# Altium footprint library Devindia_v4.0.PcbLib: 116 footprints (part 5 of 8)
Each footprint in its own frame and in the unit in brackets; x right, y up, seen from the top. Pads: shape width x height; smd on the part's side, far side on the other; paste and mask are expansions set on the pad; w line width, h text height; cw(c..) or ccw(c..) is an arc to the next point about the centre after c.
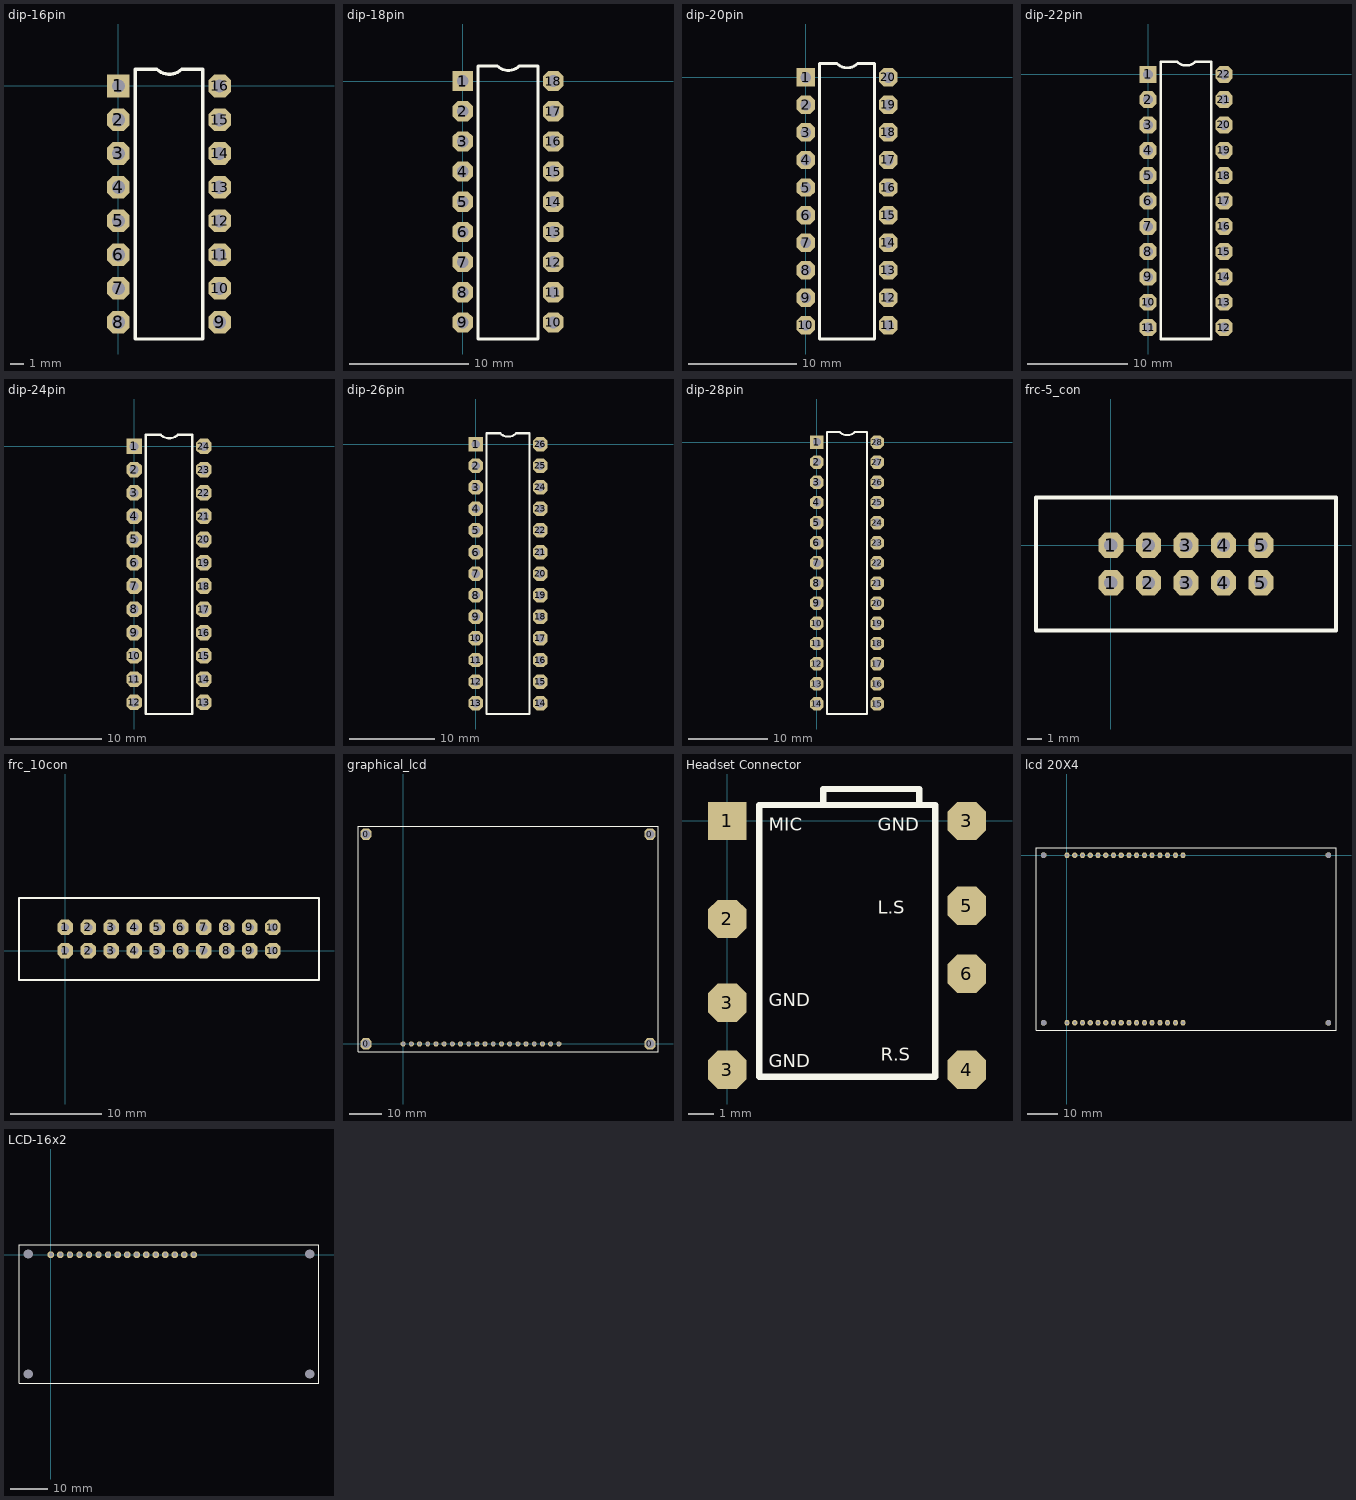
[diagram p4: the footprints below, top view; thin cyan lines are the x and y axes]

## dip-16pin [mm]
pads (16):
  rect 1.7x1.7 hole 1: 1(0,0)
  oct 1.7x1.7 hole 1: 2(0,-2.54) 3(0,-5.08) 4(0,-7.62) 5(0,-10.16) 6(0,-12.7) 7(0,-15.24) 8(0,-17.78) 9(7.62,-17.78) 10(7.62,-15.24) 11(7.62,-12.7) 12(7.62,-10.16) 13(7.62,-7.62) 14(7.62,-5.08) 15(7.62,-2.54) 16(7.62,0)
Top Overlay:
  lines w0.254: 1.27,-19.05 6.35,-19.05 6.35,1.27 4.775,1.27 cw(c3.835,2.21) 2.896,1.27 1.27,1.27 1.27,-19.05
3D body: height 1.63, standoff 1.37, extent 7.621,-2.921 7.873,-2.159
3D body: height 1.5, standoff 0, extent 7.62,-2.921 7.874,-2.159
3D body: height 1.63, standoff 1.37, extent 7.621,-0.381 7.873,0.381
3D body: height 1.5, standoff 0, extent 7.62,-0.381 7.874,0.381
3D body: height 1.63, standoff 1.37, extent 5.842,-0.381 7.747,0.381
3D body: height 1.63, standoff 1.37, extent 5.842,-2.921 7.747,-2.159
3D body: height 1.63, standoff 1.37, extent 5.842,-8.001 7.747,-7.239
3D body: height 1.5, standoff 0, extent 7.62,-8.001 7.874,-7.239
3D body: height 1.63, standoff 1.37, extent 7.621,-8.001 7.873,-7.239
3D body: height 1.63, standoff 1.37, extent -0.127,-2.921 1.778,-2.159
3D body: height 1.63, standoff 1.37, extent -0.127,-0.381 1.778,0.381
3D body: height 1.63, standoff 1.37, extent -0.127,-5.461 1.778,-4.699
3D body: height 1.63, standoff 1.37, extent -0.127,-8.001 1.778,-7.239
3D body: height 1.63, standoff 1.37, extent -0.127,-10.541 1.778,-9.779
3D body: height 1.63, standoff 1.37, extent -0.127,-13.081 1.778,-12.319
3D body: height 1.63, standoff 1.37, extent -0.127,-15.621 1.778,-14.859
3D body: height 1.63, standoff 1.37, extent -0.127,-18.161 1.778,-17.399
3D body: height 1.63, standoff 1.37, extent 5.842,-18.161 7.747,-17.399
3D body: height 1.63, standoff 1.37, extent 5.842,-15.621 7.747,-14.859
3D body: height 1.63, standoff 1.37, extent 5.842,-13.081 7.747,-12.319
3D body: height 1.63, standoff 1.37, extent 5.842,-10.541 7.747,-9.779
3D body: height 1.63, standoff 1.37, extent -0.126,-0.381 0.126,0.381
3D body: height 1.5, standoff 0, extent -0.127,-0.381 0.127,0.381
3D body: height 1.63, standoff 1.37, extent -0.126,-2.921 0.126,-2.159
3D body: height 1.5, standoff 0, extent -0.127,-2.921 0.127,-2.159
3D body: height 1.63, standoff 1.37, extent -0.126,-5.461 0.126,-4.699
3D body: height 1.5, standoff 0, extent -0.127,-5.461 0.127,-4.699
3D body: height 1.63, standoff 1.37, extent -0.126,-8.001 0.126,-7.239
3D body: height 1.5, standoff 0, extent -0.127,-8.001 0.127,-7.239
3D body: height 1.63, standoff 1.37, extent -0.126,-10.541 0.126,-9.779
3D body: height 1.5, standoff 0, extent -0.127,-10.541 0.127,-9.779
3D body: height 1.63, standoff 1.37, extent -0.126,-13.081 0.126,-12.319
3D body: height 1.5, standoff 0, extent -0.127,-13.081 0.127,-12.319
3D body: height 1.63, standoff 1.37, extent -0.126,-15.621 0.126,-14.859
3D body: height 1.5, standoff 0, extent -0.127,-15.621 0.127,-14.859
3D body: height 1.63, standoff 1.37, extent -0.126,-18.161 0.126,-17.399
3D body: height 1.5, standoff 0, extent -0.127,-18.161 0.127,-17.399
3D body: height 1.63, standoff 1.37, extent 7.494,-18.161 7.746,-17.399
3D body: height 1.5, standoff 0, extent 7.493,-18.161 7.747,-17.399
3D body: height 1.63, standoff 1.37, extent 7.494,-15.621 7.746,-14.859
3D body: height 1.5, standoff 0, extent 7.493,-15.621 7.747,-14.859
3D body: height 1.63, standoff 1.37, extent 7.494,-13.081 7.746,-12.319
3D body: height 1.5, standoff 0, extent 7.493,-13.081 7.747,-12.319
3D body: height 1.63, standoff 1.37, extent 7.494,-10.541 7.746,-9.779
3D body: height 1.5, standoff 0, extent 7.493,-10.541 7.747,-9.779
3D body: height 2, standoff 1.1, extent 1.27,-19.05 6.35,1.27
3D body: height 1.63, standoff 1.37, extent 7.494,-0.381 7.746,0.381
3D body: height 1.5, standoff 0, extent 7.493,-0.381 7.747,0.381
3D body: height 2.51, standoff 2.5, extent 2.041,-0.488 3.039,0.508
3D body: height 2.5, standoff 2, extent 1.778,-19.05 5.842,1.27
3D body: height 1.63, standoff 1.37, extent 5.842,-5.461 7.747,-4.699
3D body: height 1.5, standoff 0, extent 7.62,-5.461 7.874,-4.699
3D body: height 1.63, standoff 1.37, extent 7.621,-5.461 7.873,-4.699

## dip-18pin [mm]
pads (18):
  rect 1.7x1.7 hole 1: 1(0,0)
  oct 1.7x1.7 hole 1: 2(0,-2.54) 3(0,-5.08) 4(0,-7.62) 5(0,-10.16) 6(0,-12.7) 7(0,-15.24) 8(0,-17.78) 9(0,-20.32) 10(7.62,-20.32) 11(7.62,-17.78) 12(7.62,-15.24) 13(7.62,-12.7) 14(7.62,-10.16) 15(7.62,-7.62) 16(7.62,-5.08) 17(7.62,-2.54) 18(7.62,0)
Top Overlay:
  lines w0.254: 1.27,-21.717 6.35,-21.717 6.35,1.27 4.775,1.27 cw(c3.835,2.21) 2.896,1.27 1.27,1.27 1.27,-21.717
3D body: height 1.63, standoff 1.37, extent 7.621,-8.001 7.873,-7.239
3D body: height 1.5, standoff 0, extent 7.62,-8.001 7.874,-7.239
3D body: height 1.63, standoff 1.37, extent 7.621,-5.461 7.873,-4.699
3D body: height 1.5, standoff 0, extent 7.62,-5.461 7.874,-4.699
3D body: height 1.63, standoff 1.37, extent 5.842,-0.381 7.747,0.381
3D body: height 1.63, standoff 1.37, extent 5.842,-2.921 7.747,-2.159
3D body: height 1.63, standoff 1.37, extent 7.621,-0.381 7.873,0.381
3D body: height 1.5, standoff 0, extent 7.62,-0.381 7.874,0.381
3D body: height 1.63, standoff 1.37, extent 5.842,-5.461 7.747,-4.699
3D body: height 1.63, standoff 1.37, extent 7.621,-2.921 7.873,-2.159
3D body: height 1.5, standoff 0, extent 7.62,-2.921 7.874,-2.159
3D body: height 1.63, standoff 1.37, extent 5.842,-8.001 7.747,-7.239
3D body: height 1.63, standoff 1.37, extent 5.842,-13.081 7.747,-12.319
3D body: height 1.5, standoff 0, extent 7.62,-13.081 7.874,-12.319
3D body: height 1.63, standoff 1.37, extent 7.621,-13.081 7.873,-12.319
3D body: height 1.63, standoff 1.37, extent -0.127,-2.921 1.778,-2.159
3D body: height 1.63, standoff 1.37, extent -0.127,-0.381 1.778,0.381
3D body: height 1.63, standoff 1.37, extent -0.127,-5.461 1.778,-4.699
3D body: height 1.63, standoff 1.37, extent -0.127,-8.001 1.778,-7.239
3D body: height 1.63, standoff 1.37, extent -0.127,-10.541 1.778,-9.779
3D body: height 1.63, standoff 1.37, extent -0.127,-13.081 1.778,-12.319
3D body: height 1.63, standoff 1.37, extent -0.127,-15.621 1.778,-14.859
3D body: height 1.63, standoff 1.37, extent -0.127,-18.161 1.778,-17.399
3D body: height 1.63, standoff 1.37, extent 5.842,-20.701 7.747,-19.939
3D body: height 1.63, standoff 1.37, extent 5.842,-18.161 7.747,-17.399
3D body: height 1.63, standoff 1.37, extent 5.842,-15.621 7.747,-14.859
3D body: height 1.63, standoff 1.37, extent -0.126,-0.381 0.126,0.381
3D body: height 1.5, standoff 0, extent -0.127,-0.381 0.127,0.381
3D body: height 1.63, standoff 1.37, extent -0.126,-2.921 0.126,-2.159
3D body: height 1.5, standoff 0, extent -0.127,-2.921 0.127,-2.159
3D body: height 1.63, standoff 1.37, extent -0.126,-5.461 0.126,-4.699
3D body: height 1.5, standoff 0, extent -0.127,-5.461 0.127,-4.699
3D body: height 1.63, standoff 1.37, extent -0.126,-8.001 0.126,-7.239
3D body: height 1.5, standoff 0, extent -0.127,-8.001 0.127,-7.239
3D body: height 1.63, standoff 1.37, extent -0.126,-10.541 0.126,-9.779
3D body: height 1.5, standoff 0, extent -0.127,-10.541 0.127,-9.779
3D body: height 1.63, standoff 1.37, extent -0.126,-13.081 0.126,-12.319
3D body: height 1.5, standoff 0, extent -0.127,-13.081 0.127,-12.319
3D body: height 1.63, standoff 1.37, extent -0.126,-15.621 0.126,-14.859
3D body: height 1.5, standoff 0, extent -0.127,-15.621 0.127,-14.859
3D body: height 1.63, standoff 1.37, extent -0.126,-18.161 0.126,-17.399
3D body: height 1.5, standoff 0, extent -0.127,-18.161 0.127,-17.399
3D body: height 1.63, standoff 1.37, extent 7.494,-20.701 7.746,-19.939
3D body: height 1.5, standoff 0, extent 7.493,-20.701 7.747,-19.939
3D body: height 1.63, standoff 1.37, extent 7.494,-18.161 7.746,-17.399
3D body: height 1.5, standoff 0, extent 7.493,-18.161 7.747,-17.399
3D body: height 1.63, standoff 1.37, extent 7.494,-15.621 7.746,-14.859
3D body: height 1.5, standoff 0, extent 7.493,-15.621 7.747,-14.859
3D body: height 2, standoff 1.1, extent 1.27,-21.717 6.35,1.27
3D body: height 1.63, standoff 1.37, extent 7.494,-5.461 7.746,-4.699
3D body: height 1.5, standoff 0, extent 7.493,-5.461 7.747,-4.699
3D body: height 2.51, standoff 2.5, extent 2.041,-0.488 3.039,0.508
3D body: height 2.5, standoff 2, extent 1.778,-21.717 5.842,1.27
3D body: height 1.63, standoff 1.37, extent -0.127,-20.701 1.778,-19.939
3D body: height 1.63, standoff 1.37, extent -0.126,-20.701 0.126,-19.939
3D body: height 1.5, standoff 0, extent -0.127,-20.701 0.127,-19.939
3D body: height 1.63, standoff 1.37, extent 5.842,-10.541 7.747,-9.779
3D body: height 1.63, standoff 1.37, extent 7.494,-10.541 7.746,-9.779
3D body: height 1.5, standoff 0, extent 7.493,-10.541 7.747,-9.779

## dip-20pin [mm]
pads (20):
  rect 1.7x1.7 hole 1: 1(0,0)
  oct 1.7x1.7 hole 1: 2(0,-2.54) 3(0,-5.08) 4(0,-7.62) 5(0,-10.16) 6(0,-12.7) 7(0,-15.24) 8(0,-17.78) 9(0,-20.32) 10(0,-22.86) 11(7.62,-22.86) 12(7.62,-20.32) 13(7.62,-17.78) 14(7.62,-15.24) 15(7.62,-12.7) 16(7.62,-10.16) 17(7.62,-7.62) 18(7.62,-5.08) 19(7.62,-2.54) 20(7.62,0)
Top Overlay:
  lines w0.254: 1.27,-24.13 6.35,-24.13 6.35,1.27 4.775,1.27 cw(c3.835,2.21) 2.896,1.27 1.27,1.27 1.27,-24.13
3D body: height 1.5, standoff 0, extent -0.127,-18.161 0.127,-17.399
3D body: height 1.63, standoff 1.37, extent -0.126,-18.161 0.126,-17.399
3D body: height 1.63, standoff 1.37, extent -0.127,-18.161 1.778,-17.399
3D body: height 1.5, standoff 0, extent 7.493,-15.621 7.747,-14.859
3D body: height 1.63, standoff 1.37, extent 7.494,-15.621 7.746,-14.859
3D body: height 1.63, standoff 1.37, extent 5.842,-15.621 7.747,-14.859
3D body: height 1.5, standoff 0, extent -0.127,-20.701 0.127,-19.939
3D body: height 1.63, standoff 1.37, extent -0.126,-20.701 0.126,-19.939
3D body: height 1.63, standoff 1.37, extent -0.127,-20.701 1.778,-19.939
3D body: height 1.63, standoff 1.37, extent 7.621,-13.081 7.873,-12.319
3D body: height 1.5, standoff 0, extent 7.62,-13.081 7.874,-12.319
3D body: height 1.63, standoff 1.37, extent 7.621,-10.541 7.873,-9.779
3D body: height 1.5, standoff 0, extent 7.62,-10.541 7.874,-9.779
3D body: height 1.63, standoff 1.37, extent 7.621,-0.381 7.873,0.381
3D body: height 1.5, standoff 0, extent 7.62,-0.381 7.874,0.381
3D body: height 1.63, standoff 1.37, extent 5.842,-5.461 7.747,-4.699
3D body: height 1.63, standoff 1.37, extent 7.621,-2.921 7.873,-2.159
3D body: height 1.5, standoff 0, extent 7.62,-2.921 7.874,-2.159
3D body: height 1.63, standoff 1.37, extent 5.842,-8.001 7.747,-7.239
3D body: height 1.63, standoff 1.37, extent 7.621,-5.461 7.873,-4.699
3D body: height 1.5, standoff 0, extent 7.62,-5.461 7.874,-4.699
3D body: height 1.63, standoff 1.37, extent 5.842,-10.541 7.747,-9.779
3D body: height 1.63, standoff 1.37, extent 7.621,-8.001 7.873,-7.239
3D body: height 1.5, standoff 0, extent 7.62,-8.001 7.874,-7.239
3D body: height 1.63, standoff 1.37, extent 5.842,-13.081 7.747,-12.319
3D body: height 1.63, standoff 1.37, extent 5.842,-2.921 7.747,-2.159
3D body: height 1.63, standoff 1.37, extent 5.842,-0.381 7.747,0.381
3D body: height 1.63, standoff 1.37, extent 5.842,-18.161 7.747,-17.399
3D body: height 1.5, standoff 0, extent 7.62,-18.161 7.874,-17.399
3D body: height 1.63, standoff 1.37, extent 7.621,-18.161 7.873,-17.399
3D body: height 1.63, standoff 1.37, extent -0.127,-2.921 1.778,-2.159
3D body: height 1.63, standoff 1.37, extent -0.127,-0.381 1.778,0.381
3D body: height 1.63, standoff 1.37, extent -0.127,-5.461 1.778,-4.699
3D body: height 1.63, standoff 1.37, extent -0.127,-8.001 1.778,-7.239
3D body: height 1.63, standoff 1.37, extent -0.127,-10.541 1.778,-9.779
3D body: height 1.63, standoff 1.37, extent -0.127,-13.081 1.778,-12.319
3D body: height 1.63, standoff 1.37, extent -0.127,-15.621 1.778,-14.859
3D body: height 1.63, standoff 1.37, extent -0.127,-23.241 1.778,-22.479
3D body: height 1.63, standoff 1.37, extent 5.842,-23.241 7.747,-22.479
3D body: height 1.63, standoff 1.37, extent 5.842,-20.701 7.747,-19.939
3D body: height 1.63, standoff 1.37, extent -0.126,-0.381 0.126,0.381
3D body: height 1.5, standoff 0, extent -0.127,-0.381 0.127,0.381
3D body: height 1.63, standoff 1.37, extent -0.126,-2.921 0.126,-2.159
3D body: height 1.5, standoff 0, extent -0.127,-2.921 0.127,-2.159
3D body: height 1.63, standoff 1.37, extent -0.126,-5.461 0.126,-4.699
3D body: height 1.5, standoff 0, extent -0.127,-5.461 0.127,-4.699
3D body: height 1.63, standoff 1.37, extent -0.126,-8.001 0.126,-7.239
3D body: height 1.5, standoff 0, extent -0.127,-8.001 0.127,-7.239
3D body: height 1.63, standoff 1.37, extent -0.126,-10.541 0.126,-9.779
3D body: height 1.5, standoff 0, extent -0.127,-10.541 0.127,-9.779
3D body: height 1.63, standoff 1.37, extent -0.126,-13.081 0.126,-12.319
3D body: height 1.5, standoff 0, extent -0.127,-13.081 0.127,-12.319
3D body: height 1.63, standoff 1.37, extent -0.126,-15.621 0.126,-14.859
3D body: height 1.5, standoff 0, extent -0.127,-15.621 0.127,-14.859
3D body: height 1.63, standoff 1.37, extent -0.126,-23.241 0.126,-22.479
3D body: height 1.5, standoff 0, extent -0.127,-23.241 0.127,-22.479
3D body: height 1.63, standoff 1.37, extent 7.494,-23.241 7.746,-22.479
3D body: height 1.5, standoff 0, extent 7.493,-23.241 7.747,-22.479
3D body: height 1.63, standoff 1.37, extent 7.494,-20.701 7.746,-19.939
3D body: height 1.5, standoff 0, extent 7.493,-20.701 7.747,-19.939
3D body: height 2, standoff 1.1, extent 1.27,-24.13 6.35,1.27
3D body: height 1.63, standoff 1.37, extent 7.494,-10.541 7.746,-9.779
3D body: height 1.5, standoff 0, extent 7.493,-10.541 7.747,-9.779
3D body: height 2.51, standoff 2.5, extent 2.041,-0.488 3.039,0.508
3D body: height 2.5, standoff 2, extent 1.778,-24.13 5.842,1.27

## dip-22pin [mm]
pads (22):
  rect 1.7x1.7 hole 1: 1(0,0)
  oct 1.7x1.7 hole 1: 2(0,-2.54) 3(0,-5.08) 4(0,-7.62) 5(0,-10.16) 6(0,-12.7) 7(0,-15.24) 8(0,-17.78) 9(0,-20.32) 10(0,-22.86) 11(0,-25.4) 12(7.62,-25.4) 13(7.62,-22.86) 14(7.62,-20.32) 15(7.62,-17.78) 16(7.62,-15.24) 17(7.62,-12.7) 18(7.62,-10.16) 19(7.62,-7.62) 20(7.62,-5.08) 21(7.62,-2.54) 22(7.62,0)
Top Overlay:
  lines w0.254: 1.27,-26.543 1.27,1.27 2.896,1.27 ccw(c3.835,2.21) 4.775,1.27 6.35,1.27 6.35,-26.543 1.27,-26.543
3D body: height 2.5, standoff 2, extent 1.778,-26.543 5.842,1.27
3D body: height 2.51, standoff 2.5, extent 2.041,-0.488 3.039,0.508
3D body: height 1.5, standoff 0, extent 7.493,-15.621 7.747,-14.859
3D body: height 1.63, standoff 1.37, extent 7.494,-15.621 7.746,-14.859
3D body: height 2, standoff 1.1, extent 1.27,-26.543 6.35,1.27
3D body: height 1.5, standoff 0, extent 7.493,-25.781 7.747,-25.019
3D body: height 1.63, standoff 1.37, extent 7.494,-25.781 7.746,-25.019
3D body: height 1.5, standoff 0, extent -0.127,-25.781 0.127,-25.019
3D body: height 1.63, standoff 1.37, extent -0.126,-25.781 0.126,-25.019
3D body: height 1.5, standoff 0, extent -0.127,-23.241 0.127,-22.479
3D body: height 1.63, standoff 1.37, extent -0.126,-23.241 0.126,-22.479
3D body: height 1.5, standoff 0, extent -0.127,-18.161 0.127,-17.399
3D body: height 1.63, standoff 1.37, extent -0.126,-18.161 0.126,-17.399
3D body: height 1.5, standoff 0, extent -0.127,-15.621 0.127,-14.859
3D body: height 1.63, standoff 1.37, extent -0.126,-15.621 0.126,-14.859
3D body: height 1.5, standoff 0, extent -0.127,-13.081 0.127,-12.319
3D body: height 1.63, standoff 1.37, extent -0.126,-13.081 0.126,-12.319
3D body: height 1.5, standoff 0, extent -0.127,-10.541 0.127,-9.779
3D body: height 1.63, standoff 1.37, extent -0.126,-10.541 0.126,-9.779
3D body: height 1.5, standoff 0, extent -0.127,-8.001 0.127,-7.239
3D body: height 1.63, standoff 1.37, extent -0.126,-8.001 0.126,-7.239
3D body: height 1.5, standoff 0, extent -0.127,-5.461 0.127,-4.699
3D body: height 1.63, standoff 1.37, extent -0.126,-5.461 0.126,-4.699
3D body: height 1.5, standoff 0, extent -0.127,-2.921 0.127,-2.159
3D body: height 1.63, standoff 1.37, extent -0.126,-2.921 0.126,-2.159
3D body: height 1.5, standoff 0, extent -0.127,-0.381 0.127,0.381
3D body: height 1.63, standoff 1.37, extent -0.126,-0.381 0.126,0.381
3D body: height 1.63, standoff 1.37, extent 5.842,-25.781 7.747,-25.019
3D body: height 1.63, standoff 1.37, extent -0.127,-25.781 1.778,-25.019
3D body: height 1.63, standoff 1.37, extent -0.127,-23.241 1.778,-22.479
3D body: height 1.63, standoff 1.37, extent -0.127,-18.161 1.778,-17.399
3D body: height 1.63, standoff 1.37, extent -0.127,-15.621 1.778,-14.859
3D body: height 1.63, standoff 1.37, extent -0.127,-13.081 1.778,-12.319
3D body: height 1.63, standoff 1.37, extent -0.127,-10.541 1.778,-9.779
3D body: height 1.63, standoff 1.37, extent -0.127,-8.001 1.778,-7.239
3D body: height 1.63, standoff 1.37, extent -0.127,-5.461 1.778,-4.699
3D body: height 1.63, standoff 1.37, extent -0.127,-0.381 1.778,0.381
3D body: height 1.63, standoff 1.37, extent -0.127,-2.921 1.778,-2.159
3D body: height 1.63, standoff 1.37, extent 7.621,-23.241 7.873,-22.479
3D body: height 1.5, standoff 0, extent 7.62,-23.241 7.874,-22.479
3D body: height 1.63, standoff 1.37, extent 5.842,-23.241 7.747,-22.479
3D body: height 1.63, standoff 1.37, extent 5.842,-0.381 7.747,0.381
3D body: height 1.63, standoff 1.37, extent 5.842,-2.921 7.747,-2.159
3D body: height 1.63, standoff 1.37, extent 5.842,-5.461 7.747,-4.699
3D body: height 1.5, standoff 0, extent 7.62,-0.381 7.874,0.381
3D body: height 1.63, standoff 1.37, extent 7.621,-0.381 7.873,0.381
3D body: height 1.63, standoff 1.37, extent 5.842,-8.001 7.747,-7.239
3D body: height 1.5, standoff 0, extent 7.62,-2.921 7.874,-2.159
3D body: height 1.63, standoff 1.37, extent 7.621,-2.921 7.873,-2.159
3D body: height 1.63, standoff 1.37, extent 5.842,-18.161 7.747,-17.399
3D body: height 1.5, standoff 0, extent 7.62,-13.081 7.874,-12.319
3D body: height 1.63, standoff 1.37, extent 7.621,-13.081 7.873,-12.319
3D body: height 1.63, standoff 1.37, extent 5.842,-15.621 7.747,-14.859
3D body: height 1.5, standoff 0, extent 7.62,-10.541 7.874,-9.779
3D body: height 1.63, standoff 1.37, extent 7.621,-10.541 7.873,-9.779
3D body: height 1.63, standoff 1.37, extent 5.842,-13.081 7.747,-12.319
3D body: height 1.5, standoff 0, extent 7.62,-8.001 7.874,-7.239
3D body: height 1.63, standoff 1.37, extent 7.621,-8.001 7.873,-7.239
3D body: height 1.63, standoff 1.37, extent 5.842,-10.541 7.747,-9.779
3D body: height 1.5, standoff 0, extent 7.62,-5.461 7.874,-4.699
3D body: height 1.63, standoff 1.37, extent 7.621,-5.461 7.873,-4.699
3D body: height 1.5, standoff 0, extent 7.62,-15.621 7.874,-14.859
3D body: height 1.63, standoff 1.37, extent 7.621,-15.621 7.873,-14.859
3D body: height 1.5, standoff 0, extent 7.62,-18.161 7.874,-17.399
3D body: height 1.63, standoff 1.37, extent 7.621,-18.161 7.873,-17.399
3D body: height 1.63, standoff 1.37, extent -0.127,-20.701 1.778,-19.939
3D body: height 1.63, standoff 1.37, extent -0.126,-20.701 0.126,-19.939
3D body: height 1.5, standoff 0, extent -0.127,-20.701 0.127,-19.939
3D body: height 1.63, standoff 1.37, extent 5.842,-20.701 7.747,-19.939
3D body: height 1.63, standoff 1.37, extent 7.494,-20.701 7.746,-19.939
3D body: height 1.5, standoff 0, extent 7.493,-20.701 7.747,-19.939

## dip-24pin [mm]
pads (24):
  rect 1.7x1.7 hole 1: 1(0,0)
  oct 1.7x1.7 hole 1: 2(0,-2.54) 3(0,-5.08) 4(0,-7.62) 5(0,-10.16) 6(0,-12.7) 7(0,-15.24) 8(0,-17.78) 9(0,-20.32) 10(0,-22.86) 11(0,-25.4) 12(0,-27.94) 13(7.62,-27.94) 14(7.62,-25.4) 15(7.62,-22.86) 16(7.62,-20.32) 17(7.62,-17.78) 18(7.62,-15.24) 19(7.62,-12.7) 20(7.62,-10.16) 21(7.62,-7.62) 22(7.62,-5.08) 23(7.62,-2.54) 24(7.62,0)
Top Overlay:
  lines w0.254: 1.27,-29.21 6.35,-29.21 6.35,1.27 4.775,1.27 cw(c3.835,2.21) 2.896,1.27 1.27,1.27 1.27,-29.21
3D body: height 1.63, standoff 1.37, extent 7.621,-23.241 7.873,-22.479
3D body: height 1.5, standoff 0, extent 7.62,-23.241 7.874,-22.479
3D body: height 1.63, standoff 1.37, extent 7.621,-20.701 7.873,-19.939
3D body: height 1.5, standoff 0, extent 7.62,-20.701 7.874,-19.939
3D body: height 1.63, standoff 1.37, extent 5.842,-25.781 7.747,-25.019
3D body: height 1.63, standoff 1.37, extent 7.621,-10.541 7.873,-9.779
3D body: height 1.5, standoff 0, extent 7.62,-10.541 7.874,-9.779
3D body: height 1.63, standoff 1.37, extent 5.842,-15.621 7.747,-14.859
3D body: height 1.63, standoff 1.37, extent 7.621,-13.081 7.873,-12.319
3D body: height 1.5, standoff 0, extent 7.62,-13.081 7.874,-12.319
3D body: height 1.63, standoff 1.37, extent 5.842,-18.161 7.747,-17.399
3D body: height 1.63, standoff 1.37, extent 7.621,-15.621 7.873,-14.859
3D body: height 1.5, standoff 0, extent 7.62,-15.621 7.874,-14.859
3D body: height 1.63, standoff 1.37, extent 5.842,-20.701 7.747,-19.939
3D body: height 1.63, standoff 1.37, extent 7.621,-18.161 7.873,-17.399
3D body: height 1.5, standoff 0, extent 7.62,-18.161 7.874,-17.399
3D body: height 1.63, standoff 1.37, extent 5.842,-23.241 7.747,-22.479
3D body: height 1.63, standoff 1.37, extent 7.621,-8.001 7.873,-7.239
3D body: height 1.5, standoff 0, extent 7.62,-8.001 7.874,-7.239
3D body: height 1.63, standoff 1.37, extent 5.842,-13.081 7.747,-12.319
3D body: height 1.63, standoff 1.37, extent 7.621,-5.461 7.873,-4.699
3D body: height 1.5, standoff 0, extent 7.62,-5.461 7.874,-4.699
3D body: height 1.63, standoff 1.37, extent 5.842,-10.541 7.747,-9.779
3D body: height 1.63, standoff 1.37, extent 7.621,-2.921 7.873,-2.159
3D body: height 1.5, standoff 0, extent 7.62,-2.921 7.874,-2.159
3D body: height 1.63, standoff 1.37, extent 5.842,-8.001 7.747,-7.239
3D body: height 1.63, standoff 1.37, extent 7.621,-0.381 7.873,0.381
3D body: height 1.5, standoff 0, extent 7.62,-0.381 7.874,0.381
3D body: height 1.63, standoff 1.37, extent 5.842,-5.461 7.747,-4.699
3D body: height 1.63, standoff 1.37, extent 5.842,-2.921 7.747,-2.159
3D body: height 1.63, standoff 1.37, extent 5.842,-0.381 7.747,0.381
3D body: height 1.63, standoff 1.37, extent 5.842,-28.321 7.747,-27.559
3D body: height 1.5, standoff 0, extent 7.62,-28.321 7.874,-27.559
3D body: height 1.63, standoff 1.37, extent 7.621,-28.321 7.873,-27.559
3D body: height 1.63, standoff 1.37, extent -0.127,-2.921 1.778,-2.159
3D body: height 1.63, standoff 1.37, extent -0.127,-0.381 1.778,0.381
3D body: height 1.63, standoff 1.37, extent -0.127,-5.461 1.778,-4.699
3D body: height 1.63, standoff 1.37, extent -0.127,-8.001 1.778,-7.239
3D body: height 1.63, standoff 1.37, extent -0.127,-10.541 1.778,-9.779
3D body: height 1.63, standoff 1.37, extent -0.127,-13.081 1.778,-12.319
3D body: height 1.63, standoff 1.37, extent -0.127,-15.621 1.778,-14.859
3D body: height 1.63, standoff 1.37, extent -0.127,-18.161 1.778,-17.399
3D body: height 1.63, standoff 1.37, extent -0.127,-20.701 1.778,-19.939
3D body: height 1.63, standoff 1.37, extent -0.127,-23.241 1.778,-22.479
3D body: height 1.63, standoff 1.37, extent -0.127,-25.781 1.778,-25.019
3D body: height 1.63, standoff 1.37, extent -0.127,-28.321 1.778,-27.559
3D body: height 1.63, standoff 1.37, extent -0.126,-0.381 0.126,0.381
3D body: height 1.5, standoff 0, extent -0.127,-0.381 0.127,0.381
3D body: height 1.63, standoff 1.37, extent -0.126,-2.921 0.126,-2.159
3D body: height 1.5, standoff 0, extent -0.127,-2.921 0.127,-2.159
3D body: height 1.63, standoff 1.37, extent -0.126,-5.461 0.126,-4.699
3D body: height 1.5, standoff 0, extent -0.127,-5.461 0.127,-4.699
3D body: height 1.63, standoff 1.37, extent -0.126,-8.001 0.126,-7.239
3D body: height 1.5, standoff 0, extent -0.127,-8.001 0.127,-7.239
3D body: height 1.63, standoff 1.37, extent -0.126,-10.541 0.126,-9.779
3D body: height 1.5, standoff 0, extent -0.127,-10.541 0.127,-9.779
3D body: height 1.63, standoff 1.37, extent -0.126,-13.081 0.126,-12.319
3D body: height 1.5, standoff 0, extent -0.127,-13.081 0.127,-12.319
3D body: height 1.63, standoff 1.37, extent -0.126,-15.621 0.126,-14.859
3D body: height 1.5, standoff 0, extent -0.127,-15.621 0.127,-14.859
3D body: height 1.63, standoff 1.37, extent -0.126,-18.161 0.126,-17.399
3D body: height 1.5, standoff 0, extent -0.127,-18.161 0.127,-17.399
3D body: height 1.63, standoff 1.37, extent -0.126,-20.828 0.126,-20.066
3D body: height 1.5, standoff 0, extent -0.127,-20.828 0.127,-20.066
3D body: height 1.63, standoff 1.37, extent -0.126,-23.241 0.126,-22.479
3D body: height 1.5, standoff 0, extent -0.127,-23.241 0.127,-22.479
3D body: height 1.63, standoff 1.37, extent -0.126,-25.781 0.126,-25.019
3D body: height 1.5, standoff 0, extent -0.127,-25.781 0.127,-25.019
3D body: height 1.63, standoff 1.37, extent -0.126,-28.321 0.126,-27.559
3D body: height 1.5, standoff 0, extent -0.127,-28.321 0.127,-27.559
3D body: height 2, standoff 1.1, extent 1.27,-29.21 6.35,1.27
3D body: height 1.63, standoff 1.37, extent 7.494,-20.701 7.746,-19.939
3D body: height 1.5, standoff 0, extent 7.493,-20.701 7.747,-19.939
3D body: height 2.51, standoff 2.5, extent 2.041,-0.488 3.039,0.508
3D body: height 2.5, standoff 2, extent 1.778,-29.21 5.842,1.27

## dip-26pin [mm]
pads (26):
  rect 1.7x1.7 hole 1: 1(0,0)
  oct 1.7x1.7 hole 1: 2(0,-2.54) 3(0,-5.08) 4(0,-7.62) 5(0,-10.16) 6(0,-12.7) 7(0,-15.24) 8(0,-17.78) 9(0,-20.32) 10(0,-22.86) 11(0,-25.4) 12(0,-27.94) 13(0,-30.48) 14(7.62,-30.48) 15(7.62,-27.94) 16(7.62,-25.4) 17(7.62,-22.86) 18(7.62,-20.32) 19(7.62,-17.78) 20(7.62,-15.24) 21(7.62,-12.7) 22(7.62,-10.16) 23(7.62,-7.62) 24(7.62,-5.08) 25(7.62,-2.54) 26(7.62,0)
Top Overlay:
  lines w0.254: 1.27,-31.75 6.35,-31.75 6.35,1.27 4.775,1.27 cw(c3.835,2.21) 2.896,1.27 1.27,1.27 1.27,-31.75
3D body: height 1.63, standoff 1.37, extent 7.621,-28.321 7.873,-27.559
3D body: height 1.5, standoff 0, extent 7.62,-28.321 7.874,-27.559
3D body: height 1.63, standoff 1.37, extent 7.621,-25.781 7.873,-25.019
3D body: height 1.5, standoff 0, extent 7.62,-25.781 7.874,-25.019
3D body: height 1.63, standoff 1.37, extent 5.842,-30.861 7.747,-30.099
3D body: height 1.63, standoff 1.37, extent 7.621,-15.621 7.873,-14.859
3D body: height 1.5, standoff 0, extent 7.62,-15.621 7.874,-14.859
3D body: height 1.63, standoff 1.37, extent 5.842,-20.701 7.747,-19.939
3D body: height 1.63, standoff 1.37, extent 7.621,-18.161 7.873,-17.399
3D body: height 1.5, standoff 0, extent 7.62,-18.161 7.874,-17.399
3D body: height 1.63, standoff 1.37, extent 5.842,-23.241 7.747,-22.479
3D body: height 1.63, standoff 1.37, extent 7.621,-20.701 7.873,-19.939
3D body: height 1.5, standoff 0, extent 7.62,-20.701 7.874,-19.939
3D body: height 1.63, standoff 1.37, extent 5.842,-25.781 7.747,-25.019
3D body: height 1.63, standoff 1.37, extent 7.621,-23.241 7.873,-22.479
3D body: height 1.5, standoff 0, extent 7.62,-23.241 7.874,-22.479
3D body: height 1.63, standoff 1.37, extent 5.842,-28.321 7.747,-27.559
3D body: height 1.63, standoff 1.37, extent 7.621,-13.081 7.873,-12.319
3D body: height 1.5, standoff 0, extent 7.62,-13.081 7.874,-12.319
3D body: height 1.63, standoff 1.37, extent 5.842,-18.161 7.747,-17.399
3D body: height 1.63, standoff 1.37, extent 7.621,-10.541 7.873,-9.779
3D body: height 1.5, standoff 0, extent 7.62,-10.541 7.874,-9.779
3D body: height 1.63, standoff 1.37, extent 5.842,-15.621 7.747,-14.859
3D body: height 1.63, standoff 1.37, extent 7.621,-8.001 7.873,-7.239
3D body: height 1.5, standoff 0, extent 7.62,-8.001 7.874,-7.239
3D body: height 1.63, standoff 1.37, extent 5.842,-13.081 7.747,-12.319
3D body: height 1.63, standoff 1.37, extent 7.621,-5.461 7.873,-4.699
3D body: height 1.5, standoff 0, extent 7.62,-5.461 7.874,-4.699
3D body: height 1.63, standoff 1.37, extent 5.842,-10.541 7.747,-9.779
3D body: height 1.63, standoff 1.37, extent 7.621,-2.921 7.873,-2.159
3D body: height 1.5, standoff 0, extent 7.62,-2.921 7.874,-2.159
3D body: height 1.63, standoff 1.37, extent 5.842,-8.001 7.747,-7.239
3D body: height 1.63, standoff 1.37, extent 7.621,-0.381 7.873,0.381
3D body: height 1.5, standoff 0, extent 7.62,-0.381 7.874,0.381
3D body: height 1.63, standoff 1.37, extent 5.842,-5.461 7.747,-4.699
3D body: height 1.63, standoff 1.37, extent 5.842,-2.921 7.747,-2.159
3D body: height 1.63, standoff 1.37, extent 5.842,-0.381 7.747,0.381
3D body: height 1.63, standoff 1.37, extent -0.127,-30.861 1.778,-30.099
3D body: height 1.5, standoff 0, extent -0.254,-30.861 0,-30.099
3D body: height 1.63, standoff 1.37, extent -0.253,-30.861 -0.001,-30.099
3D body: height 1.63, standoff 1.37, extent -0.127,-2.921 1.778,-2.159
3D body: height 1.63, standoff 1.37, extent -0.127,-0.381 1.778,0.381
3D body: height 1.63, standoff 1.37, extent -0.127,-5.461 1.778,-4.699
3D body: height 1.63, standoff 1.37, extent -0.127,-8.001 1.778,-7.239
3D body: height 1.63, standoff 1.37, extent -0.127,-10.541 1.778,-9.779
3D body: height 1.63, standoff 1.37, extent -0.127,-13.081 1.778,-12.319
3D body: height 1.63, standoff 1.37, extent -0.127,-15.621 1.778,-14.859
3D body: height 1.63, standoff 1.37, extent -0.127,-18.161 1.778,-17.399
3D body: height 1.63, standoff 1.37, extent -0.127,-20.701 1.778,-19.939
3D body: height 1.63, standoff 1.37, extent -0.127,-23.241 1.778,-22.479
3D body: height 1.63, standoff 1.37, extent -0.127,-25.781 1.778,-25.019
3D body: height 1.63, standoff 1.37, extent -0.127,-28.321 1.778,-27.559
3D body: height 1.63, standoff 1.37, extent -0.126,-0.381 0.126,0.381
3D body: height 1.5, standoff 0, extent -0.127,-0.381 0.127,0.381
3D body: height 1.63, standoff 1.37, extent -0.126,-2.921 0.126,-2.159
3D body: height 1.5, standoff 0, extent -0.127,-2.921 0.127,-2.159
3D body: height 1.63, standoff 1.37, extent -0.126,-5.461 0.126,-4.699
3D body: height 1.5, standoff 0, extent -0.127,-5.461 0.127,-4.699
3D body: height 1.63, standoff 1.37, extent -0.126,-8.001 0.126,-7.239
3D body: height 1.5, standoff 0, extent -0.127,-8.001 0.127,-7.239
3D body: height 1.63, standoff 1.37, extent -0.126,-10.541 0.126,-9.779
3D body: height 1.5, standoff 0, extent -0.127,-10.541 0.127,-9.779
3D body: height 1.63, standoff 1.37, extent -0.126,-13.081 0.126,-12.319
3D body: height 1.5, standoff 0, extent -0.127,-13.081 0.127,-12.319
3D body: height 1.63, standoff 1.37, extent -0.126,-15.621 0.126,-14.859
3D body: height 1.5, standoff 0, extent -0.127,-15.621 0.127,-14.859
3D body: height 1.63, standoff 1.37, extent -0.126,-18.161 0.126,-17.399
3D body: height 1.5, standoff 0, extent -0.127,-18.161 0.127,-17.399
3D body: height 1.63, standoff 1.37, extent -0.126,-20.828 0.126,-20.066
3D body: height 1.5, standoff 0, extent -0.127,-20.828 0.127,-20.066
3D body: height 1.63, standoff 1.37, extent -0.126,-23.241 0.126,-22.479
3D body: height 1.5, standoff 0, extent -0.127,-23.241 0.127,-22.479
3D body: height 1.63, standoff 1.37, extent -0.126,-25.781 0.126,-25.019
3D body: height 1.5, standoff 0, extent -0.127,-25.781 0.127,-25.019
3D body: height 1.63, standoff 1.37, extent -0.126,-28.321 0.126,-27.559
3D body: height 1.5, standoff 0, extent -0.127,-28.321 0.127,-27.559
3D body: height 2, standoff 1.1, extent 1.27,-31.75 6.35,1.27
3D body: height 1.63, standoff 1.37, extent 7.494,-25.781 7.746,-25.019
3D body: height 1.5, standoff 0, extent 7.493,-25.781 7.747,-25.019
3D body: height 2.51, standoff 2.5, extent 2.041,-0.488 3.039,0.508
3D body: height 2.5, standoff 2, extent 1.778,-31.75 5.842,1.27

## dip-28pin [mm]
pads (28):
  rect 1.7x1.7 hole 1: 1(0,0)
  oct 1.7x1.7 hole 1: 2(0,-2.54) 3(0,-5.08) 4(0,-7.62) 5(0,-10.16) 6(0,-12.7) 7(0,-15.24) 8(0,-17.78) 9(0,-20.32) 10(0,-22.86) 11(0,-25.4) 12(0,-27.94) 13(0,-30.48) 14(0,-33) 15(7.62,-33.02) 16(7.62,-30.48) 17(7.62,-27.94) 18(7.62,-25.4) 19(7.62,-22.86) 20(7.62,-20.32) 21(7.62,-17.78) 22(7.62,-15.24) 23(7.62,-12.7) 24(7.62,-10.16) 25(7.62,-7.62) 26(7.62,-5.08) 27(7.62,-2.54) 28(7.62,0)
Top Overlay:
  lines w0.254: 1.27,-34.29 1.27,1.27 2.896,1.27 ccw(c3.835,2.21) 4.775,1.27 6.35,1.27 6.35,-34.29 1.27,-34.29
3D body: height 2.5, standoff 2, extent 1.778,-34.29 5.842,1.27
3D body: height 2.51, standoff 2.5, extent 2.041,-0.488 3.039,0.508
3D body: height 1.5, standoff 0, extent 7.493,-30.861 7.747,-30.099
3D body: height 1.63, standoff 1.37, extent 7.494,-30.861 7.746,-30.099
3D body: height 1.63, standoff 1.37, extent -0.126,-33.401 1.779,-32.639
3D body: height 1.5, standoff 0, extent -0.381,-33.401 -0.127,-32.639
3D body: height 1.63, standoff 1.37, extent -0.381,-33.401 -0.128,-32.639
3D body: height 2, standoff 1.1, extent 1.27,-34.29 6.35,1.27
3D body: height 1.5, standoff 0, extent -0.127,-28.321 0.127,-27.559
3D body: height 1.63, standoff 1.37, extent -0.126,-28.321 0.126,-27.559
3D body: height 1.5, standoff 0, extent -0.127,-25.781 0.127,-25.019
3D body: height 1.63, standoff 1.37, extent -0.126,-25.781 0.126,-25.019
3D body: height 1.5, standoff 0, extent -0.127,-23.241 0.127,-22.479
3D body: height 1.63, standoff 1.37, extent -0.126,-23.241 0.126,-22.479
3D body: height 1.5, standoff 0, extent -0.127,-20.828 0.127,-20.066
3D body: height 1.63, standoff 1.37, extent -0.126,-20.828 0.126,-20.066
3D body: height 1.5, standoff 0, extent -0.127,-18.161 0.127,-17.399
3D body: height 1.63, standoff 1.37, extent -0.126,-18.161 0.126,-17.399
3D body: height 1.5, standoff 0, extent -0.127,-15.621 0.127,-14.859
3D body: height 1.63, standoff 1.37, extent -0.126,-15.621 0.126,-14.859
3D body: height 1.5, standoff 0, extent -0.127,-13.081 0.127,-12.319
3D body: height 1.63, standoff 1.37, extent -0.126,-13.081 0.126,-12.319
3D body: height 1.5, standoff 0, extent -0.127,-10.541 0.127,-9.779
3D body: height 1.63, standoff 1.37, extent -0.126,-10.541 0.126,-9.779
3D body: height 1.5, standoff 0, extent -0.127,-8.001 0.127,-7.239
3D body: height 1.63, standoff 1.37, extent -0.126,-8.001 0.126,-7.239
3D body: height 1.5, standoff 0, extent -0.127,-5.461 0.127,-4.699
3D body: height 1.63, standoff 1.37, extent -0.126,-5.461 0.126,-4.699
3D body: height 1.5, standoff 0, extent -0.127,-2.921 0.127,-2.159
3D body: height 1.63, standoff 1.37, extent -0.126,-2.921 0.126,-2.159
3D body: height 1.5, standoff 0, extent -0.127,-0.381 0.127,0.381
3D body: height 1.63, standoff 1.37, extent -0.126,-0.381 0.126,0.381
3D body: height 1.63, standoff 1.37, extent -0.127,-28.321 1.778,-27.559
3D body: height 1.63, standoff 1.37, extent -0.127,-25.781 1.778,-25.019
3D body: height 1.63, standoff 1.37, extent -0.127,-23.241 1.778,-22.479
3D body: height 1.63, standoff 1.37, extent -0.127,-20.701 1.778,-19.939
3D body: height 1.63, standoff 1.37, extent -0.127,-18.161 1.778,-17.399
3D body: height 1.63, standoff 1.37, extent -0.127,-15.621 1.778,-14.859
3D body: height 1.63, standoff 1.37, extent -0.127,-13.081 1.778,-12.319
3D body: height 1.63, standoff 1.37, extent -0.127,-10.541 1.778,-9.779
3D body: height 1.63, standoff 1.37, extent -0.127,-8.001 1.778,-7.239
3D body: height 1.63, standoff 1.37, extent -0.127,-5.461 1.778,-4.699
3D body: height 1.63, standoff 1.37, extent -0.127,-0.381 1.778,0.381
3D body: height 1.63, standoff 1.37, extent -0.127,-2.921 1.778,-2.159
3D body: height 1.63, standoff 1.37, extent -0.253,-30.861 -0.001,-30.099
3D body: height 1.5, standoff 0, extent -0.254,-30.861 0,-30.099
3D body: height 1.63, standoff 1.37, extent -0.127,-30.861 1.778,-30.099
3D body: height 1.63, standoff 1.37, extent 5.842,-0.381 7.747,0.381
3D body: height 1.5, standoff 0, extent 7.62,-0.381 7.874,0.381
3D body: height 1.63, standoff 1.37, extent 7.621,-0.381 7.873,0.381
3D body: height 1.63, standoff 1.37, extent 5.842,-2.921 7.747,-2.159
3D body: height 1.5, standoff 0, extent 7.62,-2.921 7.874,-2.159
3D body: height 1.63, standoff 1.37, extent 7.621,-2.921 7.873,-2.159
3D body: height 1.63, standoff 1.37, extent 5.842,-5.461 7.747,-4.699
3D body: height 1.5, standoff 0, extent 7.62,-5.461 7.874,-4.699
3D body: height 1.63, standoff 1.37, extent 7.621,-5.461 7.873,-4.699
3D body: height 1.63, standoff 1.37, extent 5.842,-8.001 7.747,-7.239
3D body: height 1.5, standoff 0, extent 7.62,-8.001 7.874,-7.239
3D body: height 1.63, standoff 1.37, extent 7.621,-8.001 7.873,-7.239
3D body: height 1.63, standoff 1.37, extent 5.842,-10.541 7.747,-9.779
3D body: height 1.5, standoff 0, extent 7.62,-10.541 7.874,-9.779
3D body: height 1.63, standoff 1.37, extent 7.621,-10.541 7.873,-9.779
3D body: height 1.63, standoff 1.37, extent 5.842,-13.081 7.747,-12.319
3D body: height 1.5, standoff 0, extent 7.62,-13.081 7.874,-12.319
3D body: height 1.63, standoff 1.37, extent 7.621,-13.081 7.873,-12.319
3D body: height 1.63, standoff 1.37, extent 5.842,-15.621 7.747,-14.859
3D body: height 1.5, standoff 0, extent 7.62,-15.621 7.874,-14.859
3D body: height 1.63, standoff 1.37, extent 7.621,-15.621 7.873,-14.859
3D body: height 1.63, standoff 1.37, extent 5.842,-18.161 7.747,-17.399
3D body: height 1.5, standoff 0, extent 7.62,-18.161 7.874,-17.399
3D body: height 1.63, standoff 1.37, extent 7.621,-18.161 7.873,-17.399
3D body: height 1.63, standoff 1.37, extent 5.842,-28.321 7.747,-27.559
3D body: height 1.5, standoff 0, extent 7.62,-28.321 7.874,-27.559
3D body: height 1.63, standoff 1.37, extent 7.621,-28.321 7.873,-27.559
3D body: height 1.63, standoff 1.37, extent 5.842,-25.781 7.747,-25.019
3D body: height 1.5, standoff 0, extent 7.62,-25.781 7.874,-25.019
3D body: height 1.63, standoff 1.37, extent 7.621,-25.781 7.873,-25.019
3D body: height 1.63, standoff 1.37, extent 5.842,-23.241 7.747,-22.479
3D body: height 1.5, standoff 0, extent 7.62,-23.241 7.874,-22.479
3D body: height 1.63, standoff 1.37, extent 7.621,-23.241 7.873,-22.479
3D body: height 1.63, standoff 1.37, extent 5.842,-20.701 7.747,-19.939
3D body: height 1.5, standoff 0, extent 7.62,-20.701 7.874,-19.939
3D body: height 1.63, standoff 1.37, extent 7.621,-20.701 7.873,-19.939
3D body: height 1.63, standoff 1.37, extent 5.842,-30.861 7.747,-30.099
3D body: height 1.5, standoff 0, extent 7.62,-30.861 7.874,-30.099
3D body: height 1.63, standoff 1.37, extent 7.621,-30.861 7.873,-30.099
3D body: height 1.63, standoff 1.37, extent 5.842,-33.401 7.747,-32.639
3D body: height 1.5, standoff 0, extent 7.62,-33.401 7.874,-32.639
3D body: height 1.63, standoff 1.37, extent 7.621,-33.401 7.873,-32.639

## frc-5_con [mm]
pads (10):
  oct 1.7x1.7 hole 0.9: 1(0,-2.54) 1(0,0) 2(2.54,-2.54) 2(2.54,0) 3(5.08,-2.54) 3(5.08,0) 4(7.62,-2.54) 4(7.62,0) 5(10.16,-2.54) 5(10.16,0)
Top Overlay:
  lines w0.254: -5.07,-5.77 -5.07,3.23 15.24,3.23 15.24,-5.77 -5.07,-5.77
3D body: height 5.26, standoff 0, extent -1.27,-3.81 11.43,1.27

## frc_10con [mm]
pads (20):
  oct 1.7x1.7 hole 0.9: 1(0,0) 1(0,2.54) 2(2.54,0) 2(2.54,2.54) 3(5.08,0) 3(5.08,2.54) 4(7.62,0) 4(7.62,2.54) 5(10.16,0) 5(10.16,2.54) 6(12.7,0) 6(12.7,2.54) 7(15.24,0) 7(15.24,2.54) 8(17.78,0) 8(17.78,2.54) 9(20.32,0) 9(20.32,2.54) 10(22.86,0) 10(22.86,2.54)
Top Overlay:
  lines w0.254: -5.07,-3.23 -5.07,5.77 27.93,5.77 27.93,-3.23 -5.07,-3.23
3D body: height 5.26, standoff 0, extent -1.27,-1.27 24.13,3.81

## graphical_lcd [mil]
pads (24):
  oct 137.8x137.8 hole 106.3: 0(-452.76,0) 0(-452.76,2559.06) 0(3011.81,0) 0(3011.81,2559.06)
  oct 60x60 hole 39.37: 1(0,0) 2(100,0) 3(200,0) 4(300,0) 5(400,0) 6(500,0) 7(600,0) 8(700,0) 9(800,0) 10(900,0) 11(1000,0) 12(1100,0) 13(1200,0) 14(1300,0) 15(1400,0) 16(1500,0) 17(1600,0) 18(1700,0) 19(1800,0) 20(1900,0)
Top Overlay:
  lines w10: -551.18,-98.43 -551.18,2657.48 3110.24,2657.48 3110.24,-98.43 -551.18,-98.43
3D body: height 551.57, standoff 551.18, extent -90,440 2580,2200
3D body: height 551.18, standoff 196.85, extent -330,180 2850,2410
3D body: height 196.85, standoff 118.11, extent -550,-100 3110,2660
3D body: height 78.74, standoff 0, extent -20,-20 19.21,19.29
3D body: height 78.74, standoff 0, extent 80,-20 119.21,19.29
3D body: height 78.74, standoff 0, extent 180,-20 219.21,19.29
3D body: height 78.74, standoff 0, extent 280,-20 319.21,19.29
3D body: height 78.74, standoff 0, extent 380,-20 419.21,19.29
3D body: height 78.74, standoff 0, extent 480,-20 519.21,19.29
3D body: height 78.74, standoff 0, extent 580,-20 619.21,19.29
3D body: height 78.74, standoff 0, extent 680,-20 719.21,19.29
3D body: height 78.74, standoff 0, extent 780,-20 819.21,19.29
3D body: height 78.74, standoff 0, extent 880,-20 919.21,19.29
3D body: height 78.74, standoff 0, extent 980,-20 1019.21,19.29
3D body: height 78.74, standoff 0, extent 1180,-20 1219.21,19.29
3D body: height 78.74, standoff 0, extent 1080,-20 1119.21,19.29
3D body: height 78.74, standoff 0, extent 1280,-20 1319.21,19.29
3D body: height 78.74, standoff 0, extent 1680,-20 1719.21,19.29
3D body: height 78.74, standoff 0, extent 1580,-20 1619.21,19.29
3D body: height 78.74, standoff 0, extent 1480,-20 1519.21,19.29
3D body: height 78.74, standoff 0, extent 1380,-20 1419.21,19.29
3D body: height 78.74, standoff 0, extent 1780,-20 1819.21,19.29
3D body: height 78.74, standoff 0, extent 1880,-20 1919.21,19.29

## Headset Connector [mil]
pads (8):
  rect 60x60 all layers, no hole: 1(0,0)
  oct 60x60 all layers, no hole: 2(0,-153.15) 3(0,-388.98) 3(0,-284.25) 3(374.02,0) 4(374.02,-388.98) 5(374.02,-132.28) 6(374.02,-238.58)
Top Overlay:
  lines w10: 150,25 150,50 300,50 300,25 ; 50,-400 50,25 325,25 325,-400 50,-400
  text "MIC" at 65,-15 h20.63
  text "GND" at 235,-15 h20.63
  text "GND" at 65,-290 h20.63
  text "GND" at 65,-385 h20.63
  text "L.S" at 235,-145 h20.63
  text "R.S" at 240,-375 h20.63

## lcd 20X4 [mm]
pads (36):
  oct 1.8x1.8 hole 1.7: 0(-7.66,0.04) 0(-7.62,-54.96) 0(85.765,-54.96) 0(85.765,0.04)
  oct 1.7x1.7 hole 0.9: 1(0,-54.92) 1(0,0) 2(2.54,-54.92) 2(2.54,0) 3(5.08,-54.92) 3(5.08,0) 4(7.62,-54.92) 4(7.62,0) 5(10.16,-54.92) 5(10.16,0) 6(12.7,-54.92) 6(12.7,0) 7(15.24,-54.92) 7(15.24,0) 8(17.78,-54.92) 8(17.78,0) 9(20.32,-54.92) 9(20.32,0) 10(22.86,-54.92) 10(22.86,0) 11(25.4,-54.92) 11(25.4,0) 12(27.94,-54.92) 12(27.94,0) 13(30.48,-54.92) 13(30.48,0) 14(33.02,-54.92) 14(33.02,0) 15(35.56,-54.92) 15(35.56,0) 16(38.1,-54.92) 16(38.1,0)
Top Overlay:
  lines w0.254: -10.16,-57.46 88.265,-57.46 88.265,2.54 -10.16,2.54 -10.16,-57.46
3D body: height 10.8, standoff 0, extent -0.572,-0.536 0.425,0.462
3D body: height 10.8, standoff 0, extent 2.095,-0.409 3.092,0.589
3D body: height 10.8, standoff 0, extent 4.508,-0.536 5.505,0.462
3D body: height 10.8, standoff 0, extent 7.048,-0.409 8.045,0.589
3D body: height 10.8, standoff 0, extent 9.716,-0.409 10.712,0.589
3D body: height 10.8, standoff 0, extent 12.128,-0.536 13.125,0.462
3D body: height 10.8, standoff 0, extent 14.795,-0.409 15.792,0.589
3D body: height 10.8, standoff 0, extent 17.335,-0.409 18.332,0.589
3D body: height 10.8, standoff 0, extent 19.875,-0.536 20.872,0.462
3D body: height 10.8, standoff 0, extent 22.415,-0.409 23.412,0.589
3D body: height 10.8, standoff 0, extent 24.956,-0.409 25.952,0.589
3D body: height 10.8, standoff 0, extent 27.495,-0.409 28.492,0.589
3D body: height 10.8, standoff 0, extent 30.035,-0.536 31.032,0.462
3D body: height 10.8, standoff 0, extent 32.575,-0.409 33.572,0.589
3D body: height 10.8, standoff 0, extent 35.115,-0.409 36.112,0.589
3D body: height 10.8, standoff 0, extent 37.655,-0.409 38.652,0.589
3D body: height 10.8, standoff 0, extent -0.445,-55.4 0.552,-54.402
3D body: height 10.8, standoff 0, extent 2.095,-55.4 3.092,-54.402
3D body: height 10.8, standoff 0, extent 4.635,-55.4 5.632,-54.402
3D body: height 10.8, standoff 0, extent 7.175,-55.4 8.172,-54.402
3D body: height 10.8, standoff 0, extent 9.716,-55.4 10.712,-54.402
3D body: height 10.8, standoff 0, extent 12.128,-55.4 13.125,-54.402
3D body: height 10.8, standoff 0, extent 14.795,-55.4 15.792,-54.402
3D body: height 10.8, standoff 0, extent 17.335,-55.4 18.332,-54.402
3D body: height 10.8, standoff 0, extent 19.875,-55.4 20.872,-54.402
3D body: height 10.8, standoff 0, extent 22.415,-55.4 23.412,-54.402
3D body: height 10.8, standoff 0, extent 24.956,-55.4 25.952,-54.402
3D body: height 10.8, standoff 0, extent 27.495,-55.4 28.492,-54.402
3D body: height 10.8, standoff 0, extent 30.035,-55.4 31.032,-54.402
3D body: height 10.8, standoff 0, extent 32.575,-55.4 33.572,-54.402
3D body: height 10.8, standoff 0, extent 35.115,-55.4 36.112,-54.402
3D body: height 10.8, standoff 0, extent 37.655,-55.4 38.652,-54.402
3D body: height 12, standoff 10.5, extent -10.223,-57.686 88.963,2.512
3D body: height 20.5, standoff 12, extent -7.938,-46.637 86.169,-7.775
3D body: height 21, standoff 20.5, extent 2.857,-38.89 75.882,-16.03
3D body: height 12.5, standoff 12, extent -8.954,-56.416 -5.965,-53.422
3D body: height 12.5, standoff 12, extent 84.391,-56.162 87.38,-53.168
3D body: height 12.5, standoff 12, extent 84.138,-1.552 87.126,1.442
3D body: height 12.5, standoff 12, extent -8.7,-1.425 -5.711,1.569

## LCD-16x2 [mm]
pads (20):
  oct 1.7x1.7 hole 1: 1(0,0) 2(2.54,0) 3(5.08,0) 4(7.62,0) 5(10.16,0) 6(12.7,0) 7(15.24,0) 8(17.78,0) 9(20.32,0) 10(22.86,0) 11(25.4,0) 12(27.94,0) 13(30.48,0) 14(33.02,0) 15(35.56,0) 16(38.1,0)
  round 1.524 hole 2.5: no(-6,-31.85) no(-6,0.15) no(69,-31.85) no(69,0.15)
Top Overlay:
  lines w0.254: -8.509,-34.35 -8.509,2.032 -8.5,2.041 -8.5,2.65 71.5,2.65 71.5,-34.35 -8.5,-34.35 ; 71.5,1.652 71.501,1.651
3D body: height 11.5, standoff 11, extent -7.45,-1.4 -4.456,1.588
3D body: height 11.5, standoff 11, extent -7.425,-33.275 -4.431,-30.287
3D body: height 11.5, standoff 11, extent 67.425,-33.325 70.419,-30.337
3D body: height 11.5, standoff 11, extent 67.725,-1.2 70.719,1.788
3D body: height 14.4, standoff 11, extent 66.675,-25.4 71.12,-7.62
3D body: height 21.6, standoff 20.6, extent -1.27,-22.86 64.135,-8.89
3D body: height 20.6, standoff 10.6, extent -3.81,-27.94 66.675,-4.445
3D body: height 9.6, standoff 0, extent 37.592,-0.508 38.59,0.488
3D body: height 9.6, standoff 0, extent 35.052,-0.508 36.05,0.488
3D body: height 9.6, standoff 0, extent 32.512,-0.508 33.51,0.488
3D body: height 9.6, standoff 0, extent 29.972,-0.508 30.97,0.488
3D body: height 9.6, standoff 0, extent 27.432,-0.508 28.43,0.488
3D body: height 9.6, standoff 0, extent 24.892,-0.508 25.89,0.488
3D body: height 9.6, standoff 0, extent 22.352,-0.508 23.35,0.488
3D body: height 9.6, standoff 0, extent 19.812,-0.508 20.81,0.488
3D body: height 9.6, standoff 0, extent 17.272,-0.508 18.27,0.488
3D body: height 9.6, standoff 0, extent 14.732,-0.508 15.73,0.488
3D body: height 9.6, standoff 0, extent 12.192,-0.508 13.19,0.488
3D body: height 9.6, standoff 0, extent 9.652,-0.508 10.65,0.488
3D body: height 9.6, standoff 0, extent 7.112,-0.508 8.11,0.488
3D body: height 9.6, standoff 0, extent 4.572,-0.508 5.57,0.488
3D body: height 9.6, standoff 0, extent 2.032,-0.508 3.03,0.488
3D body: height 9.6, standoff 0, extent -0.508,-0.508 0.49,0.488
3D body: height 11, standoff 9.4, extent -8.382,-34.036 71.374,2.667